# EAGLE library part 691382030008 (library WR-TBL Pluggable Connector)
WR-TBL Serie 382 - 2.50 mm Vertical PCB Header with Flanges KIND PROPERTIES Pitch 2.5 mm MATERIAL PROPERTIES Insulator Material PA66 Insulator Flammability Rating UL94 V-0 Contact Material Copper Alloy Contact Plating Tin Contact Type Stamped GENERAL INFORMATION Operating Temperature -40 up to +105 °C Compliance RoHS ELECTRICAL PROPERTIES IR cULus 12 A Working Voltage [cULus] 300 V (AC) Withstanding Voltage [cULus] 1000 V (AC) Contact Resistance [cULus] 20 mΩ CERTIFICATION cULus Approval E315414 <https://www.we-online.com/catalog/media/o55404v209%20Family_WR-TBL_Serie_382_6913820300xx.jpg> Details see: https://www.we-online.com/catalog/en/TBL_2_50_382_VERTICAL_PCB_HEADER_W_FLANGES_69138203000X/ Updated by Ella Wu 2019-12-13 2022(C) Wurth Elektronik
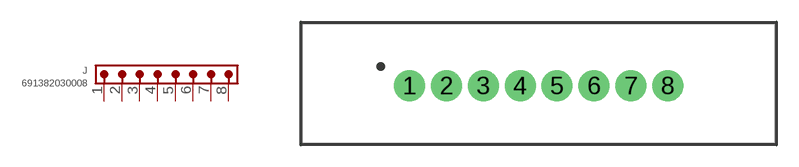
[diagram p149: symbol with the pads of 691382030008; footprint 691382030008]

Designator prefix J

## 691382030008 (DATASHEET-URL: https://www.we-online.com/redexpert/spec/691382030008?ae; IR-UL: 12A; MOUNT: THT; PART-NUMBER: 691382030008; PINS: 8; PITCH: 2.5mm; TYPE: Vertical; VALUE: 691382030008; WORKING-VOLTAGE-UL: 300V (AC))  [691382030008]
1  1  pas
2  2  pas
3  3  pas
4  4  pas
5  5  pas
6  6  pas
7  7  pas
8  8  pas

## Footprint 691382030008 (pad centres in mm)
WR-TBL Serie 382 - 2.50 mm Vertical PCB Header with Flanges Max Height = 10.1mm , Pitch 2.5mm , 8pins
drill 1.4: 1 -8.75,0; 2 -6.25,0; 3 -3.75,0; 4 -1.25,0; 5 1.25,0; 6 3.75,0; 7 6.25,0; 8 8.75,0